# Altium schematic symbol library IIM-20670.SchLib: 1 symbol
Pins are listed as number, name and electrical type; pins without a type are passive.

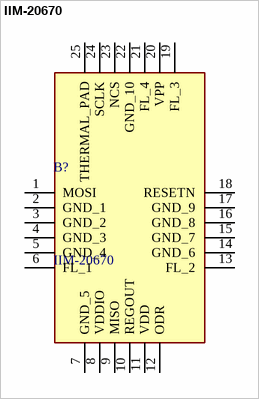
[diagram p0: symbol IIM-20670]

## IIM-20670
designator B?
IMUs - Inertial Measurement Units 6-axis Industrial IMU, Motion Tracking, SmartIndustrial; Manufacturer_Name: TDK; Geometry.Height: 1.15mm; Mouser Part Number: *; Mouser Price/Stock: *; Manufacturer_Part_Number: IIM-20670; Datasheet Link: https://invensense.tdk.com/download-pdf/iim-20670-product-brief/
footprint QFN50P450X450X115-25N
pins: 1 MOSI, 2 GND_1, 3 GND_2, 4 GND_3, 5 GND_4, 6 FL_1, 7 GND_5, 8 VDDIO, 9 MISO, 10 REGOUT, 11 VDD, 12 ODR, 13 FL_2, 14 GND_6, 15 GND_7, 16 GND_8, 17 GND_9, 18 RESETN, 19 FL_3, 20 VPP, 21 FL_4, 22 GND_10, 23 NCS, 24 SCLK, 25 THERMAL_PAD